# EAGLE library part MODUL-HC05 (library FansElectronics-Bluetooth)
MODUL Bluettoth HC05
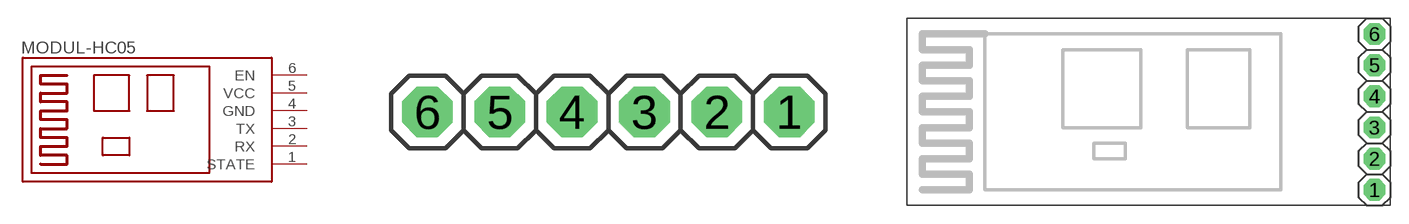
[diagram p0: symbol with the pads of MODUL-HC05-V; footprints MODUL-HC05-V, MODUL-HC05]

Designator prefix BT

## MODUL-HC05-V  [MODUL-HC05-V]
1  STATE
2  RX
3  TX
4  GND
5  VCC
6  EN

## MODUL-HC05  [MODUL-HC05]
Pads as for MODUL-HC05-V

## Footprint MODUL-HC05-V (pad centres in mm)
drill 1.016 pad 1.778 octagon: 1 6.35,0; 2 3.81,0; 3 1.27,0; 4 -1.27,0; 5 -3.81,0; 6 -6.35,0

## Footprint MODUL-HC05 (pad centres in mm)
drill 1.016 pad 1.778 octagon: 1 0,-6.35; 2 0,-3.81; 3 0,-1.27; 4 0,1.27; 5 0,3.81; 6 0,6.35